# Altium schematic symbol library TRIMMER_CAP.SchLib: 1 symbol
Pins are listed as number, name and electrical type; pins without a type are passive.

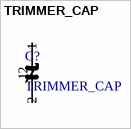
[diagram p0: symbol TRIMMER_CAP]

## TRIMMER_CAP
designator C?
Trimmer capacitor symbol
pins: 1, 2